# Altium footprint library S6B-XH-A.PcbLib: 1 footprints
Each footprint in its own frame and in the unit in brackets; x right, y up, seen from the top. Pads: shape width x height; smd on the part's side, far side on the other; paste and mask are expansions set on the pad; w line width, h text height; cw(c..) or ccw(c..) is an arc to the next point about the centre after c.
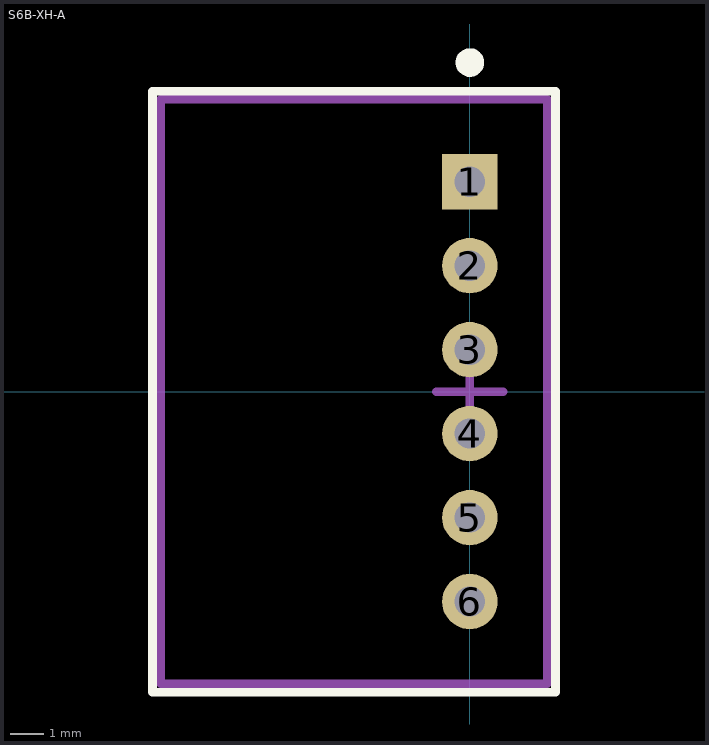
[diagram p0: the footprint, top view; thin cyan lines are the x and y axes]

## S6B-XH-A [mm]
pads (6):
  rect 1.65x1.65 hole 0.9 mask+0.051: 1(0,6.25)
  round 1.65 hole 0.9 mask+0.051: 2(0,3.75) 3(0,1.25) 4(0,-1.25) 5(0,-3.75) 6(0,-6.25)
Top Overlay:
  circle w0.45: c0,9.8 r0.2
  lines w0.254: -9.45,-8.95 -9.45,8.95 -1.95,8.95 2.55,8.95 2.55,-8.95 -1.95,-8.95 -9.45,-8.95
Mechanical 13:
  lines w0.254: -9.2,-8.7 -9.2,8.7 2.3,8.7 2.3,-8.7 -9.2,-8.7
Mechanical 15:
  lines w0.254: -1,0 0,0 ; 0,-1 0,0 ; 0,1 0,0 ; 1,0 0,0
3D body "S6B-XH-A--3DModel-STEP-56544.STEP": height 6.1, standoff -3.4, extent -9.2,-8.7 2.3,8.7